# Altium footprint library Other.PcbLib: 52 footprints (part 4 of 4)
Each footprint in its own frame and in the unit in brackets; x right, y up, seen from the top. Pads: shape width x height; smd on the part's side, far side on the other; paste and mask are expansions set on the pad; w line width, h text height; cw(c..) or ccw(c..) is an arc to the next point about the centre after c.
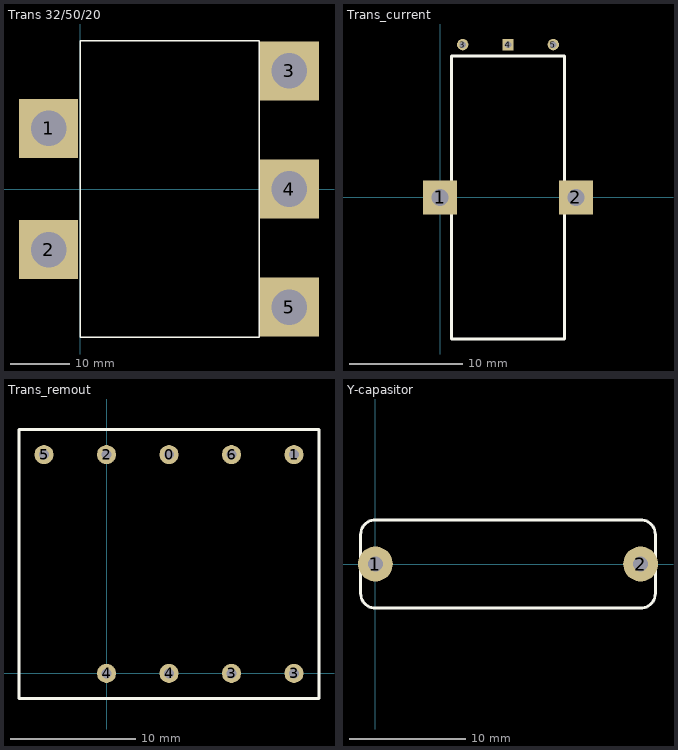
[diagram p3: the footprints below, top view; thin cyan lines are the x and y axes]

## Trans 32/50/20 [mm]
height 50
pads (5):
  rect 10x10 hole 6: 1(-5.376,10.24) 2(-5.376,-10.24) 3(35.328,19.968) 4(35.328,0) 5(35.328,-19.968)
Top Overlay:
  lines w0.254: 0,-25.088 30.208,-25.088 30.208,0 30.208,25.088 0,25.088 0,0 0,-25.088

## Trans_current [mm]
height 25
pads (5):
  rect 3x3 hole 1.5: 1(0,0) 2(12,0)
  round 1 hole 0.6: 3(2,13.5) 5(10,13.5)
  rect 1x1 hole 0.6: 4(6,13.5)
Top Overlay:
  lines w0.254: 1,-12.5 1,12.5 11,12.5 11,-12.5 1,-12.5

## Trans_remout [mm]
height 40
pads (9):
  round 1.524 hole 0.8: 0(5,17.5) 1(15,17.5) 2(0,17.5) 3(10,0) 3(15,0) 4(0,0) 4(5,0) 5(-5,17.5) 6(10,17.5)
Top Overlay:
  lines w0.254: -7,-2 -7,19.5 -6.475,19.5 17,19.5 17,-1.975 16.975,-2 -5,-2 -7,-2

## Y-capasitor [mm]
height 20
pads (2):
  round 3 hole 1.3: 1(0,0) 2(22.86,0)
Top Overlay:
  lines w0.254: -1.27,-2.54 ccw(c0,-2.54) 0,-3.81 22.86,-3.81 ccw(c22.86,-2.54) 24.13,-2.54 24.13,2.54 ccw(c22.86,2.54) 22.86,3.81 0,3.81 ccw(c0,2.54) -1.27,2.54 -1.27,-2.54